# EAGLE library part HEADER_2X4 (library HEADERS)
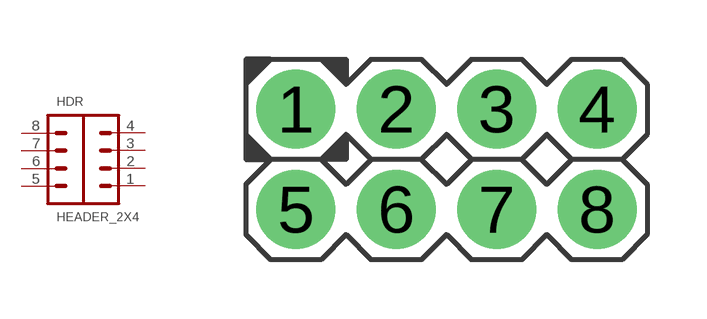
[diagram p3: symbol with the pads of HEADER_2X4; footprint HEADER_2X4]

Designator prefix HDR

## HEADER_2X4  [HEADER_2X4]
1  1  pas
2  2  pas
3  3  pas
4  4  pas
5  5  pas
6  6  pas
7  7  pas
8  8  pas

## Footprint HEADER_2X4 (pad centres in mm)
drill 1 pad 2: 1 -3.81,1.27; 2 -1.27,1.27; 3 1.27,1.27; 4 3.81,1.27; 5 -3.81,-1.27; 6 -1.27,-1.27; 7 1.27,-1.27; 8 3.81,-1.27